# EAGLE library part 7-1462039-4 (library Relays)
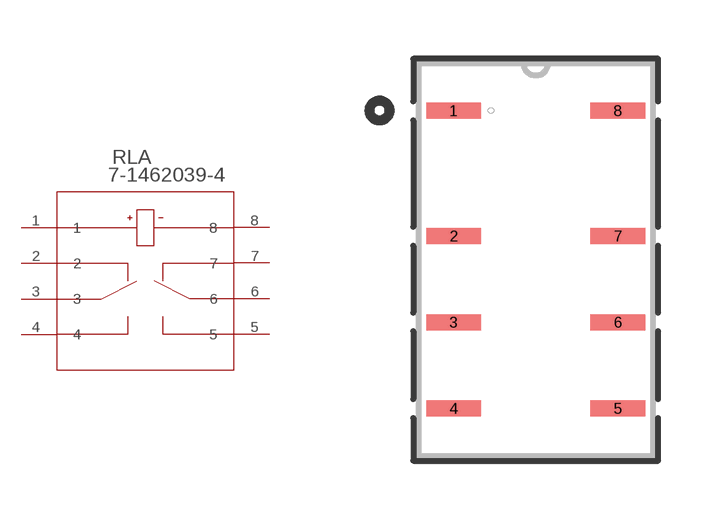
[diagram p48: symbol with the pads of RELAY8_SMTJLG; footprint RELAY8_SMTJLG]

Designator prefix RLA

## 7-1462039-4 (BUILT_BY: EMA_UL_Team; CATEGORY: Signal Relays; COPYRIGHT: Copyright (C) 2016 Accelerated Designs. All rights reserved; DESCRIPTION: IM07DJR=IM RELAY 200MW 24V; MANUFACTURER_PART_NUMBER: 7-1462039-4; PART_STATUS: active; SERIES: Axicom IM; VENDOR: TE Connectivity)  [RELAY8_SMTJLG]
1  1  pas
2  2  pas
3  3  pas
4  4  pas
5  5  pas
6  6  pas
7  7  pas
8  8  pas

## Footprint RELAY8_SMTJLG (pad centres in mm)
smd 1.397 x 0.406: 1 -2.095,3.804; 2 -2.095,0.604; 3 -2.095,-1.596; 4 -2.095,-3.796; 5 2.095,-3.796; 6 2.095,-1.596; 7 2.095,0.604; 8 2.095,3.804